# Altium schematic symbol library JMP5.SchLib: 1 symbol
Pins are listed as number, name and electrical type; pins without a type are passive.

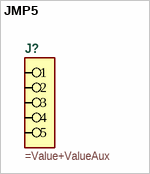
[diagram p0: symbol JMP5]

## JMP5
designator J?
=Description
pins: 1, 2, 3, 4, 5